# Altium schematic symbol library Mini Multi Function Device.SchLib: 27 symbols (part 1 of 2)
Pins are listed as number, name and electrical type; pins without a type are passive.

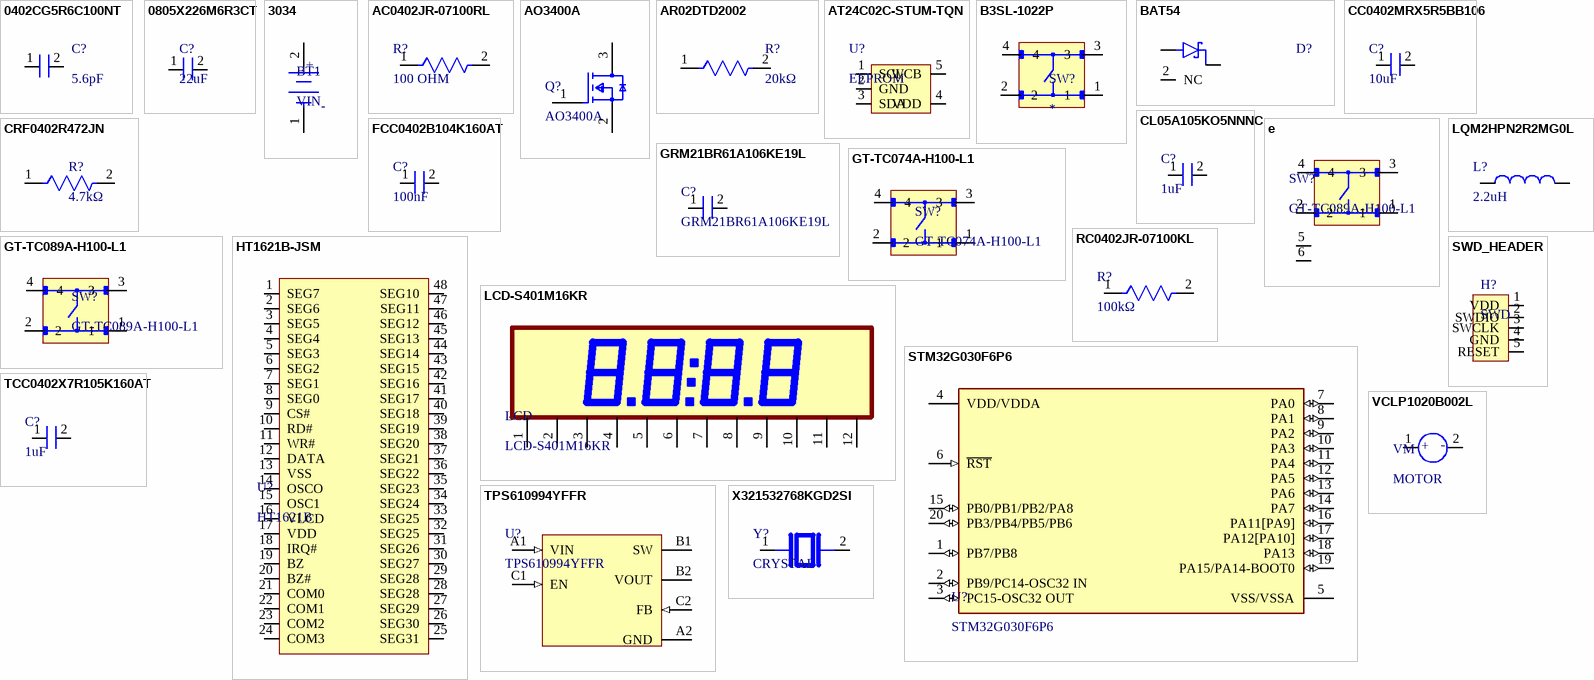
[diagram p0: symbols 0402CG5R6C100NT to X321532768KGD2SI]

## 0402CG5R6C100NT
designator C?, comment 5.6pF
10V 5.6pF C0G 0402 Multilayer Ceramic Capacitors MLCC - SMD/SMT ROHS; Manufacturer: FH (Guangdong Fenghua Advanced Tech); Manufacturer Part Number: 0402CG5R6C100NT; LCSC PART: C285041
footprint CAPACITOR
pins: 1 2, 2 3

## 0805X226M6R3CT
designator C?, comment 22uF
22uF 6.3V X5R ±20% 0805 Multilayer Ceramic Capacitors MLCC - SMD/SMT ROHS; Manufacturer: Walsin Tech Corp; Manufacturer Part Number: 0805X226M6R3CT; LCSC PART: C396739
footprint CAPACITOR_0805
pins: 1 2, 2 3

## 3034
designator BT1, comment VIN
Retainer 1 Button cell Ø20.0mm 2020，2025，2032 PCBinstall，SMD mount 4.06mm(height); Manufacturer: Keystone; Manufacturer Part Number: 3034; Number of Batteries: 1; Number of Contacts: 2; Supplier: DigiKey; Supplier Part Number: 36-3034-ND; RoHS: Compliant; Category: Batteries and Accessories; Stock: 45307; Pricing: 1=0.52, 10=0.43, 25=0.3996, 100=0.3571, 500=0.31354, 1000=0.29647, 2500=0.2753, 5000=0.2603 (USD); Contact Material: Nickel; Contact Plating: Tin; Height: 4.31mm; Lead Free: Lead Free; Lifecycle Status: Production; Mounting Technology: PCB, Surface Mount; Number of Cells: 1; REACH SVHC: Unaffected; Termination: SMD/SMT; ComponentLink1URL: https://datasheet.octopart.com:443/3034-Keystone-datasheet-137334392.pdf?src-supplier=Upverter; ComponentLink1Description: https://datasheet.octopart.com:443/3034-Keystone-datasheet-137334392.pdf?src-supplier=Upverter; ComponentLink2URL: https://datasheet.octopart.com:443/3034-Keystone-datasheet-15715878.pdf?src-supplier=Keystone; ComponentLink2Description: https://datasheet.octopart.com:443/3034-Keystone-datasheet-15715878.pdf?src-supplier=Keystone; ComponentLink3URL: https://datasheet.octopart.com:443/3034-Keystone-datasheet-16749974.pdf?src-supplier=element14+APAC; ComponentLink3Description: https://datasheet.octopart.com:443/3034-Keystone-datasheet-16749974.pdf?src-supplier=element14+APAC; ComponentLink4URL: https://datasheet.octopart.com:443/3034-Keystone-datasheet-110726686.pdf?src-supplier=Farnell; ComponentLink4Description: https://datasheet.octopart.com:443/3034-Keystone-datasheet-110726686.pdf?src-supplier=Farnell; ComponentLink5URL: https://datasheet.octopart.com:443/3034-Keystone-datasheet-159768223.pdf?src-supplier=TME; ComponentLink5Description: https://datasheet.octopart.com:443/3034-Keystone-datasheet-159768223.pdf?src-supplier=TME; ComponentLink6URL: https://datasheet.octopart.com:443/3034-Keystone-datasheet-62113088.pdf?src-supplier=RS+(Formerly+Allied+Electronics); ComponentLink6Description: https://datasheet.octopart.com:443/3034-Keystone-datasheet-62113088.pdf?src-supplier=RS+(Formerly+Allied+Electronics); ComponentLink7URL: https://datasheet.octopart.com:443/3034-Keystone-datasheet-24992608.pdf?src-supplier=Future+Electronics; ComponentLink7Description: https://datasheet.octopart.com:443/3034-Keystone-datasheet-24992608.pdf?src-supplier=Future+Electronics; LCSC PART: C5199422
footprint FP-3034-MFG
pins: 1 C, 2 A
text: +; -

## AC0402JR-07100RL
designator R?, comment 100 OHM
Res Thick Film 0402 100 Ohm 5% 0.063W(1/16W) ±100ppm/C Pad SMD T/R Automotive AEC-Q200; Manufacturer: Yageo Group; Manufacturer Part Number: AC0402JR-07100RL; Max Power Dissipation: 63mW; Power Rating: 62.5mW; Value: 100Ω; Temperature Coefficient: 100ppm/°C; Voltage Rating: 50V; Supplier: DigiKey; Supplier Part Number: YAG3516CT-ND; RoHS: Compliant; Category: Chip SMD Resistors; Stock: 671269; Pricing: 1=0.1, 10=0.022, 25=0.0164, 50=0.013, 100=0.0105, 250=0.00804, 500=0.00666, 1000=0.00558, 5000=0.0039 (USD); Case/Package: 0402; Case Code (Imperial): 0402; Case Code (Metric): 1005; China RoHS: Non-Compliant; Composition: Thick Film; Country of Origin: Mainland China, Taiwan; Depth: 500µm; Export Control Classification Number (ECCN) Code: EAR99; Features: Automotive AEC-Q200, Moisture Resistant; Height: 320µm; Harmonized Tariff Schedule (HTS) Code: 8533.21.00.30; Introduction Date: 2012-04-10; Length: 1mm; Lifecycle Status: Production; Max Operating Temperature: 155°C; Military Standard: Not; Min Operating Temperature: -55°C; Mounting Technology: Surface Mount; Number of Terminals: 2; Number of Terminations: 2; Packaging: Tape & Reel; Ratings: AEC-Q200; REACH SVHC: Unaffected; Schedule B: 8533210045, 8533210045|8533210045, 8533210045|8533210045|8533210045, 8533210045|8533210045|8533210045|8533210045; Termination: SMD/SMT; Tolerance: 5%; Weight: 652.039032µg; Width: 500µm; Working Voltage: 50V; ComponentLink1URL: https://datasheet.octopart.com:443/AC0402JR-07100RL-Yageo-datasheet-182189377.pdf?src-supplier=IHS; ComponentLink1Description: https://datasheet.octopart.com:443/AC0402JR-07100RL-Yageo-datasheet-182189377.pdf?src-supplier=IHS; ComponentLink2URL: https://datasheet.octopart.com:443/AC0402JR-07100RL-Yageo-datasheet-83209224.pdf?src-supplier=Upverter; ComponentLink2Description: https://datasheet.octopart.com:443/AC0402JR-07100RL-Yageo-datasheet-83209224.pdf?src-supplier=Upverter; ComponentLink3URL: https://datasheet.octopart.com:443/AC0402JR-07100RL-Yageo-datasheet-178509465.pdf?src-supplier=Newark; ComponentLink3Description: https://datasheet.octopart.com:443/AC0402JR-07100RL-Yageo-datasheet-178509465.pdf?src-supplier=Newark; ComponentLink4URL: https://datasheet.octopart.com:443/AC0402JR-07100RL-Yageo-Group-datasheet-188689268.pdf?src-supplier=LCSC; ComponentLink4Description: https://datasheet.octopart.com:443/AC0402JR-07100RL-Yageo-Group-datasheet-188689268.pdf?src-supplier=LCSC; ComponentLink5URL: https://datasheet.octopart.com:443/AC0402JR-07100RL-Yageo-datasheet-151884373.pdf?src-supplier=Future+Electronics; ComponentLink5Description: https://datasheet.octopart.com:443/AC0402JR-07100RL-Yageo-datasheet-151884373.pdf?src-supplier=Future+Electronics; ComponentLink6URL: https://datasheet.octopart.com:443/AC0402JR-07100RL-Yageo-Group-datasheet-189830439.pdf?src-supplier=Future+Electronics; ComponentLink6Description: https://datasheet.octopart.com:443/AC0402JR-07100RL-Yageo-Group-datasheet-189830439.pdf?src-supplier=Future+Electronics; ComponentLink7URL: https://datasheet.octopart.com:443/AC0402JR-07100RL-Yageo-datasheet-166720450.pdf?src-supplier=Future+Electronics; ComponentLink7Description: https://datasheet.octopart.com:443/AC0402JR-07100RL-Yageo-datasheet-166720450.pdf?src-supplier=Future+Electronics; ComponentLink8URL: https://datasheet.octopart.com:443/AC0402JR-07100RL-Yageo-datasheet-137699919.pdf?src-supplier=Future+Electronics; ComponentLink8Description: https://datasheet.octopart.com:443/AC0402JR-07100RL-Yageo-datasheet-137699919.pdf?src-supplier=Future+Electronics; ComponentLink9URL: https://datasheet.octopart.com:443/AC0402JR-07100RL-Yageo-datasheet-62139191.pdf?src-supplier=Future+Electronics; ComponentLink9Description: https://datasheet.octopart.com:443/AC0402JR-07100RL-Yageo-datasheet-62139191.pdf?src-supplier=Future+Electronics; ComponentLink10URL: https://datasheet.octopart.com:443/AC0402JR-07100RL-Yageo-datasheet-58829331.pdf?src-supplier=Future+Electronics; ComponentLink10Description: https://datasheet.octopart.com:443/AC0402JR-07100RL-Yageo-datasheet-58829331.pdf?src-supplier=Future+Electronics; ComponentLink11URL: https://datasheet.octopart.com:443/AC0402JR-07100RL-Yageo-datasheet-128678457.pdf?src-supplier=X-ON; ComponentLink11Description: https://datasheet.octopart.com:443/AC0402JR-07100RL-Yageo-datasheet-128678457.pdf?src-supplier=X-ON; ComponentLink12URL: https://datasheet.octopart.com/AC0402JR-07100RL-Yageo-datasheet-12512238.pdf; ComponentLink12Description: https://datasheet.octopart.com/AC0402JR-07100RL-Yageo-datasheet-12512238.pdf; ComponentLink13URL: http://sigma.octopart.com:80/conflict_mineral_statement/Yageo-company-3.pdf?src-supplier=Compliance+Statements; ComponentLink13Description: http://sigma.octopart.com:80/conflict_mineral_statement/Yageo-company-3.pdf?src-supplier=Compliance+Statements; ComponentLink14URL: http://sigma.octopart.com:80/rohs_statement/Yageo-company-2.pdf?src-supplier=Compliance+Statements; ComponentLink14Description: http://sigma.octopart.com:80/rohs_statement/Yageo-company-2.pdf?src-supplier=Compliance+Statements; LCSC PART: C138288
footprint RESISTOR
pins: 1, 2

## AO3400A
designator Q?
Trans MOSFET N-CH 30V 5.7A 3-Pin SOT-23; Manufacturer: Alpha & Omega Semiconductor; Drain to Source Resistance: 26.5mΩ; Gate to Source Voltage (Vgs): 12V; Input Capacitance: 630pF; Max Junction Temperature (Tj): 150°C; Max Power Dissipation: 1.4W; Number of Channels: 1; Threshold Voltage: 650mV; Turn-Off Delay Time: 25ns; Turn-On Delay Time: 3ns; Supplier: DigiKey; Supplier Part Number: 785-1000-6-ND; Manufacturer Part Number: AO3400A; RoHS: Compliant; Category: MOSFETs; Stock: 64557; Pricing: 1=0.52, 10=0.322, 50=0.2332, 100=0.2043, 500=0.15316 (USD); Case/Package: SOT-23; Continuous Drain Current (ID): 5.7A; Country of Origin: Mainland China; Drain to Source Breakdown Voltage: 30V; Drain to Source Voltage (Vdss): 30V; Export Control Classification Number (ECCN) Code: EAR99; Height: 1.25mm; Introduction Date: 2007-04-17; Lead Free: Lead Free; Lifecycle Status: Production; Max Operating Temperature: 150°C; Min Breakdown Voltage: 30V; Min Operating Temperature: -55°C; Mounting Technology: Surface Mount; Number of Elements: 1; Pins: 3; Number of Terminals: 3; Power Dissipation: 1.4W; Radiation Hardening: No; Rds On Max: 26.5mΩ; REACH SVHC: Unaffected; Schedule B: 8541290080, 8541290080|8541290080|8541290080|8541290080|8541290080; ComponentLink1URL: https://sigma.octopart.com:443/140150677/technical_drawing/Alpha-%26-Omega-Semiconductor-AO3400A.pdf?src-supplier=Alpha+%26+Omega+Semiconductor+SCT; ComponentLink1Description: https://sigma.octopart.com:443/140150677/technical_drawing/Alpha-%26-Omega-Semiconductor-AO3400A.pdf?src-supplier=Alpha+%26+Omega+Semiconductor+SCT; ComponentLink2URL: https://datasheet.octopart.com:443/AO3400A-Alpha-%26-Omega-Semiconductor-datasheet-11777925.pdf?src-supplier=IHS; ComponentLink2Description: https://datasheet.octopart.com:443/AO3400A-Alpha-%26-Omega-Semiconductor-datasheet-11777925.pdf?src-supplier=IHS; ComponentLink3URL: https://sigma.octopart.com:443/138895710/technical_drawing/Alpha-%26-Omega-Semiconductor-AO3400A.pdf?src-supplier=Upverter; ComponentLink3Description: https://sigma.octopart.com:443/138895710/technical_drawing/Alpha-%26-Omega-Semiconductor-AO3400A.pdf?src-supplier=Upverter; ComponentLink4URL: https://datasheet.octopart.com:443/AO3400A-Alpha-%26-Omega-Semiconductor-datasheet-14060799.pdf?src-supplier=iiiC; ComponentLink4Description: https://datasheet.octopart.com:443/AO3400A-Alpha-%26-Omega-Semiconductor-datasheet-14060799.pdf?src-supplier=iiiC; ComponentLink5URL: https://datasheet.octopart.com:443/AO3400A-Alpha-%26-Omega-Semiconductor-datasheet-5402508.pdf?src-supplier=Verical; ComponentLink5Description: https://datasheet.octopart.com:443/AO3400A-Alpha-%26-Omega-Semiconductor-datasheet-5402508.pdf?src-supplier=Verical; LCSC PART: C20917
footprint FP-SOT23-MFG
pins: 1 G, 2 S, 3 D

## AR02DTD2002
designator R?, comment 20kΩ
-55℃~+155℃ 20kΩ 25V 62.5mW Thin Film Resistor ±0.5% ±50ppm/℃ 0402 Chip Resistor - Surface Mount ROHS; Manufacturer: Viking Tech; Manufacturer Part Number: AR02DTD2002; LCSC PART: C319759
footprint RESISTOR
pins: 1, 2

## AT24C02C-STUM-TQN
designator U?, comment EEPROM
SOT-23-5 EEPROM ROHS; Manufacturer: QNH; Manufacturer Part Number: AT24C02C-STUM-TQN; LCSC PART: C53432858
footprint AT24C02C-STUM-TQN
pins: 1 SCL, 2 GND, 3 SDA, 4 VDD, 5 WCB

## B3SL-1022P
designator SW?
Switch Tactile N.O. SPST Extended Round Button J-Bend 0.05A 12VDC 1.96N SMD Embossed Tape; Manufacturer: Omron; Manufacturer Part Number: B3SL-1022P; Actuator Length: 2.5908mm; Actuator Material: Rubber; Contact Current Rating: 50mA; Contact Resistance: 100mΩ; Electrical Life: 100kcycles; Illumination Type: Illuminated, Non-Illuminated; Max Voltage Rating (DC): 12V; Number of Positions: 1; Operating Force: 2.45N; Ratings: Dust Tight, IP67, Waterproof; Sealable: IP67; Switch Function: Off-Mom; Switch Travel: 500µm; Supplier: Arrow Electronics; Supplier Part Number: B3SL-1022P; RoHS: Compliant; Category: Tactile Switches; Stock: 444403; Pricing: 1=0.5697, 10=0.4911, 25=0.4847, 100=0.4754, 250=0.4509, 500=0.4472, 1400=0.4226, 2800=0.4185, 4200=0.4143, 7000=0.4027, 9800=0.3951, 14000=0.3878 (USD); Case/Package: SMD/SMT; Connector Type: J-Bend; Contact Material: Silver; Country of Origin: Japan; Current Rating: 50mA; Depth: 7mm; Export Control Classification Number (ECCN) Code: EAR99; Height: 2.5mm; Harmonized Tariff Schedule (HTS) Code: 8536.50.90.40; Insulation Resistance: 100MΩ; Introduction Date: 2008-10-08; Lead Free: Lead Free; Length: 6.5mm; Lifecycle Status: Production; Max Current Rating: 50mA; Max Operating Temperature: 90°C; Mechanical Life: 100kcycles; Min Operating Temperature: -25°C; Mounting Technology: Surface Mount; Orientation: Straight; Packaging: Tape and Reel; Radiation Hardening: No; REACH SVHC: Unaffected; Termination: Solder; Throw Configuration: SPST; Voltage Rating (DC): 12V; Width: 6mm; ComponentLink1URL: https://datasheet.octopart.com:443/B3SL-1022P-Omron-datasheet-10910975.pdf?src-supplier=Factory+Futures; ComponentLink1Description: https://datasheet.octopart.com:443/B3SL-1022P-Omron-datasheet-10910975.pdf?src-supplier=Factory+Futures; ComponentLink2URL: https://datasheet.octopart.com:443/B3SL-1022P-Omron-datasheet-180955482.pdf?src-supplier=IHS; ComponentLink2Description: https://datasheet.octopart.com:443/B3SL-1022P-Omron-datasheet-180955482.pdf?src-supplier=IHS; ComponentLink3URL: https://datasheet.octopart.com:443/B3SL-1022P-Omron-datasheet-62106912.pdf?src-supplier=Newark; ComponentLink3Description: https://datasheet.octopart.com:443/B3SL-1022P-Omron-datasheet-62106912.pdf?src-supplier=Newark; ComponentLink4URL: https://datasheet.octopart.com:443/B3SL-1022P-Omron-datasheet-5337775.pdf?src-supplier=Newark; ComponentLink4Description: https://datasheet.octopart.com:443/B3SL-1022P-Omron-datasheet-5337775.pdf?src-supplier=Newark; ComponentLink5URL: https://datasheet.octopart.com:443/B3SL-1022P-Omron-datasheet-17360628.pdf?src-supplier=Farnell; ComponentLink5Description: https://datasheet.octopart.com:443/B3SL-1022P-Omron-datasheet-17360628.pdf?src-supplier=Farnell; ComponentLink6URL: https://datasheet.octopart.com:443/B3SL-1022P-Omron-datasheet-8478417.pdf?src-supplier=element14+APAC; ComponentLink6Description: https://datasheet.octopart.com:443/B3SL-1022P-Omron-datasheet-8478417.pdf?src-supplier=element14+APAC; ComponentLink7URL: https://datasheet.octopart.com:443/B3SL-1022P-Omron-datasheet-154765592.pdf?src-supplier=Master+Electronics; ComponentLink7Description: https://datasheet.octopart.com:443/B3SL-1022P-Omron-datasheet-154765592.pdf?src-supplier=Master+Electronics; LCSC PART: C86708
footprint SW_B3SL-1022P
pins: 1, 2, 3, 4

## BAT54
designator D?  (value not drawn)
Diode Schottky 30V 0.2A Automotive 3-Pin SOT-23; Manufacturer: Diodes Inc.; Manufacturer Part Number: BAT54; Value: 10pF; Current Rating: 200mA; Element Configuration: Single; Forward Voltage: 240mV; Max Forward Surge Current (Ifsm): 600mA; Max Power Dissipation: 200mW; Max Reverse Leakage Current: 2µA; Number of Elements: 1; Polarity: Standard; Reverse Recovery Time: 5ns; Reverse Standoff Voltage: 25V; Supplier: Newark; Supplier Part Number: BAT54; RoHS: Compliant; Category: Schottky Diodes; Stock: 48918; Pricing: 1=0.222, 50=0.174, 100=0.11, 250=0.091, 500=0.079, 1000=0.065, 2500=0.053, 5000=0.051 (USD); Case/Package: SOT-23; China RoHS: Non-Compliant; Country of Origin: Mainland China; Export Control Classification Number (ECCN) Code: EAR99; Forward Current: 200mA; Harmonized Tariff Schedule (HTS) Code: 8541.10.00.70; Introduction Date: 1995-09-01; Lead Free: Lead Free; Lifecycle Status: Production; LTB Date: 2021-08-06; LTD Date: 2021-08-06; Max Operating Temperature: 125°C; Max Output current: 200mA; Max Repetitive Reverse Voltage (Vrrm): 30V; Min Breakdown Voltage: 30V; Min Operating Temperature: -65°C; Pins: 3; Number of Terminals: 3; Output Current: 200mA; Packaging: Cut Tape; Peak Reverse Current: 2µA; Power Dissipation: 200mW; Power Rating: 200mW; REACH SVHC: Affected; Termination: SMD/SMT; Voltage Rating (DC): 30V; Width: 3.05mm; ComponentLink1URL: https://datasheet.octopart.com:443/BAT54-Rectron-datasheet-181184833.pdf?src-supplier=IHS; ComponentLink1Description: https://datasheet.octopart.com:443/BAT54-Rectron-datasheet-181184833.pdf?src-supplier=IHS; ComponentLink2URL: https://datasheet.octopart.com:443/BAT54-Lite-On-datasheet-149134416.pdf?src-supplier=IHS; ComponentLink2Description: https://datasheet.octopart.com:443/BAT54-Lite-On-datasheet-149134416.pdf?src-supplier=IHS; ComponentLink3URL: https://datasheet.octopart.com:443/BAT54-Rectron-datasheet-182306116.pdf?src-supplier=IHS; ComponentLink3Description: https://datasheet.octopart.com:443/BAT54-Rectron-datasheet-182306116.pdf?src-supplier=IHS; ComponentLink4URL: https://datasheet.octopart.com:443/BAT54-Diodes-Inc.-datasheet-181528020.pdf?src-supplier=IHS; ComponentLink4Description: https://datasheet.octopart.com:443/BAT54-Diodes-Inc.-datasheet-181528020.pdf?src-supplier=IHS; ComponentLink5URL: https://datasheet.octopart.com:443/BAT54-Diodes-Inc.-datasheet-180551406.pdf?src-supplier=IHS; ComponentLink5Description: https://datasheet.octopart.com:443/BAT54-Diodes-Inc.-datasheet-180551406.pdf?src-supplier=IHS; ComponentLink6URL: https://datasheet.octopart.com:443/BAT54-Diodes-Inc.-datasheet-181528181.pdf?src-supplier=IHS; ComponentLink6Description: https://datasheet.octopart.com:443/BAT54-Diodes-Inc.-datasheet-181528181.pdf?src-supplier=IHS; ComponentLink7URL: https://datasheet.octopart.com:443/BAT54-Diodes-Inc.-datasheet-180087920.pdf?src-supplier=IHS; ComponentLink7Description: https://datasheet.octopart.com:443/BAT54-Diodes-Inc.-datasheet-180087920.pdf?src-supplier=IHS; ComponentLink8URL: https://datasheet.octopart.com:443/BAT54-Diodes-Inc.-datasheet-180663379.pdf?src-supplier=IHS; ComponentLink8Description: https://datasheet.octopart.com:443/BAT54-Diodes-Inc.-datasheet-180663379.pdf?src-supplier=IHS; ComponentLink9URL: https://datasheet.octopart.com:443/BAT54-Zetex-datasheet-9882.pdf?src-supplier=IHS; ComponentLink9Description: https://datasheet.octopart.com:443/BAT54-Zetex-datasheet-9882.pdf?src-supplier=IHS; ComponentLink10URL: https://datasheet.octopart.com:443/BAT54-Diodes-Inc.-datasheet-180493470.pdf?src-supplier=IHS; ComponentLink10Description: https://datasheet.octopart.com:443/BAT54-Diodes-Inc.-datasheet-180493470.pdf?src-supplier=IHS; ComponentLink11URL: https://datasheet.octopart.com:443/BAT54-Diodes-Inc.-datasheet-182327183.pdf?src-supplier=IHS; ComponentLink11Description: https://datasheet.octopart.com:443/BAT54-Diodes-Inc.-datasheet-182327183.pdf?src-supplier=IHS; ComponentLink12URL: https://datasheet.octopart.com:443/BAT54-Diodes-Inc.-datasheet-548743.pdf?src-supplier=element14; ComponentLink12Description: https://datasheet.octopart.com:443/BAT54-Diodes-Inc.-datasheet-548743.pdf?src-supplier=element14; ComponentLink13URL: https://datasheet.octopart.com:443/BAT54-Diodes-Inc.-datasheet-41192442.pdf?src-supplier=Newark; ComponentLink13Description: https://datasheet.octopart.com:443/BAT54-Diodes-Inc.-datasheet-41192442.pdf?src-supplier=Newark; ComponentLink14URL: https://datasheet.octopart.com:443/BAT54-Diodes-Inc.-datasheet-134530442.pdf?src-supplier=Diodes+Inc+SCT; ComponentLink14Description: https://datasheet.octopart.com:443/BAT54-Diodes-Inc.-datasheet-134530442.pdf?src-supplier=Diodes+Inc+SCT; ComponentLink15URL: https://sigma.octopart.com:443/138706058/technical_drawing/Diodes-Inc.-BAT54.pdf?src-supplier=Diodes+Inc+SCT; ComponentLink15Description: https://sigma.octopart.com:443/138706058/technical_drawing/Diodes-Inc.-BAT54.pdf?src-supplier=Diodes+Inc+SCT; ComponentLink16URL: https://datasheet.octopart.com/BAT54-Diodes-Inc.-datasheet-11970926.pdf; ComponentLink16Description: https://datasheet.octopart.com/BAT54-Diodes-Inc.-datasheet-11970926.pdf; ComponentLink17URL: https://datasheet.octopart.com/BAT54-Diodes-Inc.-datasheet-10029091.pdf; ComponentLink17Description: https://datasheet.octopart.com/BAT54-Diodes-Inc.-datasheet-10029091.pdf; ComponentLink18URL: https://datasheet.octopart.com/BAT54-Diodes-Inc.-datasheet-5320128.pdf; ComponentLink18Description: https://datasheet.octopart.com/BAT54-Diodes-Inc.-datasheet-5320128.pdf; ComponentLink19URL: http://sigma.octopart.com:80/15540767/rohs_certificate/Diodes-Inc.-BAT54.pdf?src-supplier=Compliance+Statements; ComponentLink19Description: http://sigma.octopart.com:80/15540767/rohs_certificate/Diodes-Inc.-BAT54.pdf?src-supplier=Compliance+Statements; ComponentLink20URL: http://sigma.octopart.com:80/15616893/materials_sheet/Diodes-Inc.-BAT54.pdf?src-supplier=Compliance+Statements; ComponentLink20Description: http://sigma.octopart.com:80/15616893/materials_sheet/Diodes-Inc.-BAT54.pdf?src-supplier=Compliance+Statements; LCSC PART: C7528904
footprint SOT95P240X120-3N
pins: 1, 2 NC, 3

## CC0402MRX5R5BB106
designator C?, comment 10uF
6.3V 10uF X5R ±20% 0402 Multilayer Ceramic Capacitors MLCC - SMD/SMT ROHS; Manufacturer: Yageo Group; Manufacturer Part Number: CC0402MRX5R5BB106; Value: 10µF; Supplier: DigiKey; Supplier Part Number: 311-1729-1-ND; RoHS: Compliant; Category: Ceramic Capacitors; Stock: 65707; Pricing: 1=0.27, 10=0.154, 50=0.1096, 100=0.0961, 500=0.07342 (USD); Case/Package: 0402; Case Code (Imperial): 0402; Case Code (Metric): 1005; China RoHS: Compliant; Composition: Ceramic; Country of Origin: Mainland China, Taiwan; Depth: 500µm; Dielectric: X5R; Dielectric Material: Ceramic; Export Control Classification Number (ECCN) Code: EAR99; Halogen Free: Halogen Free; Height: 500µm; Harmonized Tariff Schedule (HTS) Code: 8532.24.00.20; Introduction Date: 2013-02-05; Lead Free: Lead Free; Length: 1mm; Lifecycle Status: Production; Max Operating Temperature: 85°C; Min Operating Temperature: -55°C; Mounting Technology: Surface Mount; Number of Terminals: 2; Packaging: Tape & Reel (TR); REACH SVHC: Unaffected; Schedule B: 8532240020, 8532240020|8532240020, 8532240020|8532240020|8532240020, 8532240020|8532240020|8532240020|8532240020; Termination: SMD/SMT; Thickness: 558.8µm; Tolerance: 20%; Voltage Rating: 6.3V; Voltage Rating (DC): 6.3V; Weight: 652.039032µg; Width: 500µm; ComponentLink1URL: https://datasheet.octopart.com:443/CC0402MRX5R5BB106-Yageo-datasheet-170350636.pdf?src-supplier=IHS; ComponentLink1Description: https://datasheet.octopart.com:443/CC0402MRX5R5BB106-Yageo-datasheet-170350636.pdf?src-supplier=IHS; ComponentLink2URL: https://datasheet.octopart.com:443/CC0402MRX5R5BB106-Yageo-datasheet-68297942.pdf?src-supplier=Upverter; ComponentLink2Description: https://datasheet.octopart.com:443/CC0402MRX5R5BB106-Yageo-datasheet-68297942.pdf?src-supplier=Upverter; ComponentLink3URL: https://datasheet.octopart.com:443/CC0402MRX5R5BB106-Yageo-datasheet-181967537.pdf?src-supplier=Newark; ComponentLink3Description: https://datasheet.octopart.com:443/CC0402MRX5R5BB106-Yageo-datasheet-181967537.pdf?src-supplier=Newark; ComponentLink4URL: https://datasheet.octopart.com:443/CC0402MRX5R5BB106-Yageo-datasheet-140260304.pdf?src-supplier=Newark; ComponentLink4Description: https://datasheet.octopart.com:443/CC0402MRX5R5BB106-Yageo-datasheet-140260304.pdf?src-supplier=Newark; ComponentLink5URL: https://datasheet.octopart.com:443/CC0402MRX5R5BB106-Yageo-Group-datasheet-175963154.pdf?src-supplier=Newark; ComponentLink5Description: https://datasheet.octopart.com:443/CC0402MRX5R5BB106-Yageo-Group-datasheet-175963154.pdf?src-supplier=Newark; ComponentLink6URL: https://datasheet.octopart.com:443/CC0402MRX5R5BB106-Yageo-datasheet-158238148.pdf?src-supplier=Newark; ComponentLink6Description: https://datasheet.octopart.com:443/CC0402MRX5R5BB106-Yageo-datasheet-158238148.pdf?src-supplier=Newark; ComponentLink7URL: https://datasheet.octopart.com:443/CC0402MRX5R5BB106-Yageo-datasheet-149070021.pdf?src-supplier=TME; ComponentLink7Description: https://datasheet.octopart.com:443/CC0402MRX5R5BB106-Yageo-datasheet-149070021.pdf?src-supplier=TME; ComponentLink8URL: https://datasheet.octopart.com:443/CC0402MRX5R5BB106-Yageo-Group-datasheet-145016144.pdf?src-supplier=ODG+(Origin+Data+Global); ComponentLink8Description: https://datasheet.octopart.com:443/CC0402MRX5R5BB106-Yageo-Group-datasheet-145016144.pdf?src-supplier=ODG+(Origin+Data+Global); ComponentLink9URL: https://datasheet.octopart.com:443/CC0402MRX5R5BB106-Yageo-datasheet-137875056.pdf?src-supplier=Future+Electronics; ComponentLink9Description: https://datasheet.octopart.com:443/CC0402MRX5R5BB106-Yageo-datasheet-137875056.pdf?src-supplier=Future+Electronics; ComponentLink10URL: https://datasheet.octopart.com:443/CC0402MRX5R5BB106-Yageo-datasheet-78855684.pdf?src-supplier=Future+Electronics; ComponentLink10Description: https://datasheet.octopart.com:443/CC0402MRX5R5BB106-Yageo-datasheet-78855684.pdf?src-supplier=Future+Electronics; ComponentLink11URL: https://datasheet.octopart.com:443/CC0402MRX5R5BB106-Yageo-datasheet-59875459.pdf?src-supplier=Future+Electronics; ComponentLink11Description: https://datasheet.octopart.com:443/CC0402MRX5R5BB106-Yageo-datasheet-59875459.pdf?src-supplier=Future+Electronics; ComponentLink12URL: https://datasheet.octopart.com:443/CC0402MRX5R5BB106-Yageo-datasheet-27626583.pdf?src-supplier=Future+Electronics; ComponentLink12Description: https://datasheet.octopart.com:443/CC0402MRX5R5BB106-Yageo-datasheet-27626583.pdf?src-supplier=Future+Electronics; ComponentLink13URL: https://datasheet.octopart.com:443/CC0402MRX5R5BB106-Yageo-datasheet-14389981.pdf?src-supplier=Future+Electronics; ComponentLink13Description: https://datasheet.octopart.com:443/CC0402MRX5R5BB106-Yageo-datasheet-14389981.pdf?src-supplier=Future+Electronics; ComponentLink14URL: https://datasheet.octopart.com/CC0402MRX5R5BB106-Yageo-datasheet-86397281.pdf; ComponentLink14Description: https://datasheet.octopart.com/CC0402MRX5R5BB106-Yageo-datasheet-86397281.pdf; ComponentLink15URL: http://sigma.octopart.com:80/conflict_mineral_statement/Yageo-company-3.pdf?src-supplier=Compliance+Statements; ComponentLink15Description: http://sigma.octopart.com:80/conflict_mineral_statement/Yageo-company-3.pdf?src-supplier=Compliance+Statements; ComponentLink16URL: http://sigma.octopart.com:80/rohs_statement/Yageo-company-2.pdf?src-supplier=Compliance+Statements; ComponentLink16Description: http://sigma.octopart.com:80/rohs_statement/Yageo-company-2.pdf?src-supplier=Compliance+Statements; LCSC PART: C105884
footprint CAPACITOR
pins: 1 2, 2 3

## CL05A105KO5NNNC
designator C?, comment 1uF
16V 1uF X5R 卤10% 0402 Multilayer Ceramic Capacitors MLCC - SMD/SMT ROHS; Manufacturer: Samsung Electro-Mechanics; Manufacturer Part Number: CL05A105KO5NNNC; Value: 1µF; Tolerance: 10%; Supplier: DigiKey; Supplier Part Number: 1276-1067-6-ND; RoHS: Compliant; Category: Ceramic Capacitors; Stock: 1053248; Pricing: 1=0.1, 10=0.043, 50=0.029, 100=0.0248, 500=0.01786 (USD); Case/Package: 0402; Case Code (Imperial): 0402; Case Code (Metric): 1005; China RoHS: Compliant; Contact Plating: Tin; Depth: 500µm; Dielectric: X5R; Dielectric Material: Ceramic; Height: 550µm; Length: 1mm; Lifecycle Status: Production; Material: Ceramic; Max Operating Temperature: 85°C; Min Operating Temperature: -55°C; Mounting Technology: Surface Mount; Number of Terminals: 2; Radiation Hardening: No; REACH SVHC: Unaffected; Schedule B: 8532240020, 8532240020|8532240020, 8532240020|8532240020|8532240020, 8532240020|8532240020|8532240020|8532240020; Thickness: 558.8µm; Voltage: 16V; Voltage Rating: 16V; Voltage Rating (DC): 16V; Width: 500µm; ComponentLink1URL: https://datasheet.octopart.com:443/CL05A105KO5NNNC-Samsung-Electro-Mechanics-datasheet-181960514.pdf?src-supplier=IHS; ComponentLink1Description: https://datasheet.octopart.com:443/CL05A105KO5NNNC-Samsung-Electro-Mechanics-datasheet-181960514.pdf?src-supplier=IHS; ComponentLink2URL: https://datasheet.octopart.com:443/CL05A105KO5NNNC-Samsung-Electro-Mechanics-datasheet-136031720.pdf?src-supplier=Samsung+SCT; ComponentLink2Description: https://datasheet.octopart.com:443/CL05A105KO5NNNC-Samsung-Electro-Mechanics-datasheet-136031720.pdf?src-supplier=Samsung+SCT; ComponentLink3URL: https://datasheet.octopart.com:443/CL05A105KO5NNNC-Samsung-Electro-Mechanics-datasheet-11776774.pdf?src-supplier=Future+Electronics; ComponentLink3Description: https://datasheet.octopart.com:443/CL05A105KO5NNNC-Samsung-Electro-Mechanics-datasheet-11776774.pdf?src-supplier=Future+Electronics; ComponentLink4URL: https://datasheet.octopart.com:443/CL05A105KO5NNNC-Samsung-Electro-Mechanics-datasheet-110226202.pdf?src-supplier=Future+Electronics; ComponentLink4Description: https://datasheet.octopart.com:443/CL05A105KO5NNNC-Samsung-Electro-Mechanics-datasheet-110226202.pdf?src-supplier=Future+Electronics; ComponentLink5URL: https://datasheet.octopart.com:443/CL05A105KO5NNNC-Samsung-Electro-Mechanics-datasheet-81461590.pdf?src-supplier=Future+Electronics; ComponentLink5Description: https://datasheet.octopart.com:443/CL05A105KO5NNNC-Samsung-Electro-Mechanics-datasheet-81461590.pdf?src-supplier=Future+Electronics; ComponentLink6URL: https://datasheet.octopart.com:443/CL05A105KO5NNNC-Samsung-datasheet-42280519.pdf?src-supplier=Future+Electronics; ComponentLink6Description: https://datasheet.octopart.com:443/CL05A105KO5NNNC-Samsung-datasheet-42280519.pdf?src-supplier=Future+Electronics; ComponentLink7URL: https://datasheet.octopart.com:443/CL05A105KO5NNNC-Samsung-datasheet-34152987.pdf?src-supplier=Future+Electronics; ComponentLink7Description: https://datasheet.octopart.com:443/CL05A105KO5NNNC-Samsung-datasheet-34152987.pdf?src-supplier=Future+Electronics; ComponentLink8URL: https://datasheet.octopart.com:443/CL05A105KO5NNNC-Samsung-datasheet-8329584.pdf?src-supplier=Future+Electronics; ComponentLink8Description: https://datasheet.octopart.com:443/CL05A105KO5NNNC-Samsung-datasheet-8329584.pdf?src-supplier=Future+Electronics; ComponentLink9URL: https://datasheet.octopart.com:443/CL05A105KO5NNNC-Samsung-Electro-Mechanics-datasheet-149136633.pdf?src-supplier=Future+Electronics; ComponentLink9Description: https://datasheet.octopart.com:443/CL05A105KO5NNNC-Samsung-Electro-Mechanics-datasheet-149136633.pdf?src-supplier=Future+Electronics; ComponentLink10URL: https://datasheet.octopart.com/CL05A105KO5NNNC-Samsung-Electro-Mechanics-datasheet-97040617.pdf; ComponentLink10Description: https://datasheet.octopart.com/CL05A105KO5NNNC-Samsung-Electro-Mechanics-datasheet-97040617.pdf; ComponentLink11URL: https://datasheet.octopart.com/CL05A105KO5NNNC-Samsung-Electro-Mechanics-datasheet-8324245.pdf; ComponentLink11Description: https://datasheet.octopart.com/CL05A105KO5NNNC-Samsung-Electro-Mechanics-datasheet-8324245.pdf; ComponentLink12URL: https://datasheet.octopart.com:443/CL05A105KO5NNNC-Samsung-datasheet-59220082.pdf?src-supplier=TME; ComponentLink12Description: https://datasheet.octopart.com:443/CL05A105KO5NNNC-Samsung-datasheet-59220082.pdf?src-supplier=TME; LCSC PART: C29266
footprint CAPACITOR
pins: 1 2, 2 3

## CRF0402R472JN
designator R?, comment 4.7kΩ
-55℃~+125℃ 30V 4.7kΩ 62.5mW ±5% ±50ppm/℃ 0402 Chip Resistor - Surface Mount ROHS; Manufacturer: SIE; Manufacturer Part Number: CRF0402R472JN; LCSC PART: C54974059
footprint RESISTOR
pins: 1, 2

## e
designator SW?, comment GT-TC089A-H100-L1
Switch Tactile N.O. SPST Round Button J-Bend 0.05A 12VDC 200000Cycles 4N SMD T/R; Manufacturer: ALPS; Manufacturer Part Number: SKSGAAE010; Actuator Length: 406.4µm; Contact Resistance: 100mΩ; Current Rating: 50mA; Electrical Life: 200kcycles; Max Voltage Rating (DC): 12V; Number of Positions: 1; Supplier: DigiKey; Supplier Part Number: 4809-SKSGAAE010DKR-ND; RoHS: Compliant; Category: Tactile Switches; Stock: 7403; Pricing: 1=0.45, 10=0.388, 25=0.3624, 100=0.3241, 250=0.30028, 500=0.28342, 1000=0.26774, 2500=0.24901, 5000=0.23641 (USD); Case/Package: SMD/SMT; Color: Black; Export Control Classification Number (ECCN) Code: EAR99; Height: 990.6µm; Harmonized Tariff Schedule (HTS) Code: 8536.50.70.00; Insulation Resistance: 100MΩ; Introduction Date: 2015-04-16; Length: 3.048mm; Lifecycle Status: Production; Max Current Rating: 50mA; Max Operating Temperature: 85°C; Mechanical Life: 200kcycles; Min Operating Temperature: -40°C; Mounting Technology: Surface Mount; Operating Force: 4N; Termination: Solder; Throw Configuration: SPST; Voltage Rating (DC): 12V; ComponentLink1URL: https://datasheet.octopart.com:443/SKSGAAE010-ALPS-datasheet-160473678.pdf?src-supplier=IHS; ComponentLink1Description: https://datasheet.octopart.com:443/SKSGAAE010-ALPS-datasheet-160473678.pdf?src-supplier=IHS; ComponentLink2URL: https://datasheet.octopart.com:443/SKSGAAE010-ALPS-datasheet-182235287.pdf?src-supplier=IHS; ComponentLink2Description: https://datasheet.octopart.com:443/SKSGAAE010-ALPS-datasheet-182235287.pdf?src-supplier=IHS; ComponentLink3URL: https://datasheet.octopart.com:443/SKSGAAE010-ALPS-datasheet-169092254.pdf?src-supplier=Future+Electronics; ComponentLink3Description: https://datasheet.octopart.com:443/SKSGAAE010-ALPS-datasheet-169092254.pdf?src-supplier=Future+Electronics; LCSC PART: C255505
footprint SKSGAAE010
pins: 1, 2, 3, 4, 5, 6

## FCC0402B104K160AT
designator C?, comment 100nF
FCC0402B104K160AT 100nF ±10% 16V Ceramic Capacitor X7R 0402 Ceramic Capacitors  100nF   16V 10%; Manufacturer: FOJAN; LCSC PART: C5137468; Manufacturer Part Number: FCC0402B104K160AT
footprint CAPACITOR
pins: 1 2, 2 3

## GRM21BR61A106KE19L
designator C?
10V 10uF X5R ±10% 0805 Multilayer Ceramic Capacitors MLCC - SMD/SMT ROHS; Manufacturer: Murata Electronics; LCSC PART: C77073; Manufacturer Part Number: GRM21BR61A106KE19L
footprint CAPACITOR_0805
pins: 1 2, 2 3

## GT-TC074A-H100-L1
designator SW?
-30℃~+85℃ 1.6N 100,000 cycles 10mm 12V 4.5mm 4.5mm 50mA Black No Round Button SMD(SMT) Tab SPST Surface Mount,Vertical Without Bracket SMD-4P,4.5x4.5mm Tactile Switches ROHS; Manufacturer: G-Switch; LCSC PART: C963232; Manufacturer Part Number: GT-TC074A-H100-L1
footprint SW-SMD_4P-L4.5-W4.5-P3.00-LS7.5
pins: 1, 2, 3, 4

## GT-TC089A-H100-L1
designator SW?
-30℃~+85℃ 1.6N 100,000 cycles 10mm 12V 50mA 6mm 6mm Black No Round Button SMD(SMT) Tab SPST Surface Mount,Vertical Without Bracket SMD-4P,6x6mm Tactile Switches ROHS; Manufacturer: G-Switch; LCSC PART: C843652; Manufacturer Part Number: GT-TC089A-H100-L1
footprint SW-SMD_4P-L6.0-W6.0-P4.50-LS8.5
pins: 1, 2, 3, 4

## HT1621B-JSM
designator U?, comment HT1621B
-25℃~+75℃ 0.1uA 1/3,1/2 1/4,1/3,1/2 2.4V~5.2V 256kHz 3-Wire Serial Interface 32 Segment 32x4 bit 60uA Built-in oscillator SSOP-48 LCD Drivers ROHS; Manufacturer: JSMSEMI; Manufacturer Part Number: HT1621B-JSM; LCSC PART: C18190086
footprint HT1621B-JSM (-40℃~+85℃ 0.1uA 1/3,1/2 1/4,1/3,1/2 2.4V~5.2V 256kHz 3-Wire Serial Interface 32 Segment 32x4 bit 60uA LQFP-44(10x10) LCD Drivers ROHS)
pins: 1 SEG7 (oc), 2 SEG6 (oc), 3 SEG5 (oc), 4 SEG4 (oc), 5 SEG3 (oc), 6 SEG2 (oc), 7 SEG1 (oc), 8 SEG0 (oc), 9 CS# (oc), 10 RD# (oc), 11 WR# (oc), 12 DATA (oc), 13 VSS (oc), 14 OSCO (oc), 15 OSC1 (oc), 16 VLCD (oc), 17 VDD (oc), 18 IRQ# (oc), 19 BZ (oc), 20 BZ# (oc), 21 COM0 (oc), 22 COM1 (oc), 23 COM2 (oc), 24 COM3 (oc), 25 SEG31 (oc), 26 SEG30 (oc), 27 SEG29 (oc), 28 SEG28 (oc), 29 SEG28 (oc), 30 SEG27 (oc), 31 SEG26 (oc), 32 SEG25 (oc), 33 SEG25 (oc), 34 SEG24 (oc), 35 SEG23 (oc), 36 SEG22 (oc), 37 SEG21 (oc), 38 SEG20 (oc), 39 SEG19 (oc), 40 SEG18 (oc), 41 SEG17 (oc), 42 SEG16 (oc), 43 SEG15 (oc), 44 SEG14 (oc), 45 SEG13 (oc), 46 SEG12 (oc), 47 SEG11 (oc), 48 SEG10 (oc)

## LCD-S401M16KR
designator LCD
LCD Numeric Display Modules 4 Digit 0.17 7 Seg Reflective; Manufacturer: Lumex; Background Color: Grey; Nominal Supply Voltage (DC): 3V; Number of Circuits: 5; Supplier: DigiKey; Supplier Part Number: LCD-S401M16KR-ND; Manufacturer Part Number: LCD-S401M16KR; RoHS: Compliant; Category: LCD, OLED, Graphic Displays; Stock: 6110; Pricing: 1=2.07, 10=1.484, 100=1.1317, 864=0.93564, 1728=0.89114, 2592=0.86835, 5184=0.83419, 10368=0.80529 (USD); China RoHS: Compliant; Lifecycle Status: Production; Max Operating Temperature: 50°C; Min Operating Temperature: 0°C; Operating Supply Voltage: 3V; Packaging: Bulk; REACH SVHC: Yes; Schedule B: 8531200020, 8531200040, 8531200040|8531200040, 8531200040|8531200040|8531200040; ComponentLink1URL: https://datasheet.octopart.com:443/LCD-S401M16KR-Lumex-datasheet-154837219.pdf?src-supplier=JRH+Electronics; ComponentLink1Description: https://datasheet.octopart.com:443/LCD-S401M16KR-Lumex-datasheet-154837219.pdf?src-supplier=JRH+Electronics; ComponentLink2URL: https://datasheet.octopart.com:443/LCD-S401M16KR-Lumex-datasheet-155954798.pdf?src-supplier=Future+Electronics; ComponentLink2Description: https://datasheet.octopart.com:443/LCD-S401M16KR-Lumex-datasheet-155954798.pdf?src-supplier=Future+Electronics; LCSC PART: C17355221
footprint LCD-S401M16KR
pins: 1 P$1, 2 P$2, 3 P$3, 4 P$4, 5 P$5, 6 P$6, 7 P$7, 8 P$8, 9 P$9, 10 P$10, 11 P$11, 12 P$12

## LQM2HPN2R2MG0L
designator L?, comment 2.2uH
Inductor Power Chip Shielded Multi-Layer 2.2uH 20% 1MHz Ferrite 1.3A 0.1Ohm DCR 1008 T/R; Manufacturer: Murata; Manufacturer Part Number: LQM2HPN2R2MG0L; Manufacturer Lifecycle Status: IN PRODUCTION; Value: 220µF; DC Resistance (DCR): 100mΩ; Number of Circuits: 1; Self Resonant Frequency: 40MHz; Voltage Rating: 50V; Supplier: DigiKey; Supplier Part Number: 490-5114-1-ND; RoHS: Compliant; Category: Fixed Inductors; Stock: 505234; Pricing: 1=0.17, 10=0.142, 100=0.1167, 1000=0.09599 (USD); Case/Package: 1008; Case Code (Imperial): 1008; Case Code (Metric): 2520; Core Material: Ferrite; Current Rating: 1.3A; DC Current: 1.3A; Depth: 2.2mm; Diameter: 10mm; Height: 900µm; Height - Seated (Max): 990.6µm; Inductance Tolerance: 20%; Lead Free: Lead Free; Lead Pitch: 5mm; Length: 2.5mm; Lifecycle Status: Production; Max Current Rating: 1.3A; Max DC Current: 1.3A; Max Operating Temperature: 125°C; Military Standard: Not; Min Operating Temperature: -55°C; Mounting Technology: Through Hole; Pins: 2; Number of Terminals: 2; Packaging: Bulk; Radiation Hardening: No; REACH SVHC: Unaffected; RMS Current (Irms): 1.3A; Schedule B: 8504500000, 8504500000|8504500000, 8504500000|8504500000|8504500000, 8504500000|8504500000|8504500000|8504500000; ESR: 100mΩ; Shielding: Shielded; Termination: SMD/SMT; Test Frequency: 1MHz; Tolerance: 20%; Voltage Rating (DC): 50V; Width: 2mm; ComponentLink1URL: https://datasheet.octopart.com:443/LQM2HPN2R2MG0L-Murata-datasheet-11799310.pdf?src-supplier=Upverter; ComponentLink1Description: https://datasheet.octopart.com:443/LQM2HPN2R2MG0L-Murata-datasheet-11799310.pdf?src-supplier=Upverter; ComponentLink2URL: https://datasheet.octopart.com:443/LQM2HPN2R2MG0L-Murata-datasheet-44660790.pdf?src-supplier=Upverter; ComponentLink2Description: https://datasheet.octopart.com:443/LQM2HPN2R2MG0L-Murata-datasheet-44660790.pdf?src-supplier=Upverter; ComponentLink3URL: https://datasheet.octopart.com:443/LQM2HPN2R2MG0L-Murata-datasheet-39128533.pdf?src-supplier=Newark; ComponentLink3Description: https://datasheet.octopart.com:443/LQM2HPN2R2MG0L-Murata-datasheet-39128533.pdf?src-supplier=Newark; ComponentLink4URL: https://datasheet.octopart.com:443/LQM2HPN2R2MG0L-Murata-datasheet-141288001.pdf?src-supplier=Ciiva; ComponentLink4Description: https://datasheet.octopart.com:443/LQM2HPN2R2MG0L-Murata-datasheet-141288001.pdf?src-supplier=Ciiva; ComponentLink5URL: https://datasheet.octopart.com:443/LQM2HPN2R2MG0L-Murata-datasheet-140714418.pdf?src-supplier=Ciiva; ComponentLink5Description: https://datasheet.octopart.com:443/LQM2HPN2R2MG0L-Murata-datasheet-140714418.pdf?src-supplier=Ciiva; ComponentLink6URL: https://datasheet.octopart.com:443/LQM2HPN2R2MG0L-Murata-datasheet-138755521.pdf?src-supplier=Ciiva; ComponentLink6Description: https://datasheet.octopart.com:443/LQM2HPN2R2MG0L-Murata-datasheet-138755521.pdf?src-supplier=Ciiva; ComponentLink7URL: https://datasheet.octopart.com:443/LQM2HPN2R2MG0L-Murata-datasheet-140710322.pdf?src-supplier=TME; ComponentLink7Description: https://datasheet.octopart.com:443/LQM2HPN2R2MG0L-Murata-datasheet-140710322.pdf?src-supplier=TME; ComponentLink8URL: https://datasheet.octopart.com:443/LQM2HPN2R2MG0L-Murata-datasheet-142045970.pdf?src-supplier=Arrow.cn; ComponentLink8Description: https://datasheet.octopart.com:443/LQM2HPN2R2MG0L-Murata-datasheet-142045970.pdf?src-supplier=Arrow.cn; ComponentLink9URL: https://datasheet.octopart.com:443/LQM2HPN2R2MG0L-Murata-datasheet-145450753.pdf?src-supplier=Geoflip; ComponentLink9Description: https://datasheet.octopart.com:443/LQM2HPN2R2MG0L-Murata-datasheet-145450753.pdf?src-supplier=Geoflip; ComponentLink10URL: https://datasheet.octopart.com:443/LQM2HPN2R2MG0L-Murata-datasheet-104455174.pdf?src-supplier=Future+Electronics; ComponentLink10Description: https://datasheet.octopart.com:443/LQM2HPN2R2MG0L-Murata-datasheet-104455174.pdf?src-supplier=Future+Electronics; ComponentLink11URL: https://datasheet.octopart.com/LQM2HPN2R2MG0L-Murata-datasheet-14392801.pdf; ComponentLink11Description: https://datasheet.octopart.com/LQM2HPN2R2MG0L-Murata-datasheet-14392801.pdf; ComponentLink12URL: http://sigma.octopart.com:80/reach_statement/Murata-company-16.pdf?src-supplier=Compliance+Statements; ComponentLink12Description: http://sigma.octopart.com:80/reach_statement/Murata-company-16.pdf?src-supplier=Compliance+Statements; LCSC PART: C86092
footprint INDC2520X100N
pins: 1, 2

## RC0402JR-07100KL
designator R?, comment 100kΩ
62.5mW Thick Film Resistors 50V ±100ppm/℃ ±5% 100kΩ 0402 Chip Resistor - Surface Mount ROHS; Manufacturer: Yageo Group; Manufacturer Part Number: RC0402JR-07100KL; Max Power Dissipation: 63mW; Temperature Coefficient: 100ppm/°C; Supplier: DigiKey; Supplier Part Number: 311-100KJRCT-ND; RoHS: Compliant; Category: Chip SMD Resistors; Stock: 495681; Pricing: 1=0.1, 10=0.019, 25=0.0136, 50=0.0108, 100=0.0087, 250=0.0066, 500=0.00542, 1000=0.00451, 5000=0.00309 (USD); Case/Package: 0402; Case Code (Imperial): 0402; China RoHS: Non-Compliant; Composition: Thick Film; Country of Origin: Mainland China, Taiwan; Depth: 500µm; Export Control Classification Number (ECCN) Code: EAR99; Features: Moisture Resistant; Height: 350µm; Harmonized Tariff Schedule (HTS) Code: 8533.21.00.30; Introduction Date: 2004-10-04; Lead Free: Lead Free; Length: 1mm; Lifecycle Status: Production; Max Operating Temperature: 155°C; Military Standard: Not; Min Operating Temperature: -55°C; Mounting Technology: Surface Mount; Pins: 2; Number of Terminals: 2; Number of Terminations: 2; Packaging: Tape & Reel; Power Rating: 62.5mW; REACH SVHC: Unaffected; Value: 100kΩ; Schedule B: 8533210045, 8533210045|8533210045, 8533210045|8533210045|8533210045, 8533210045|8533210045|8533210045|8533210045; Termination: SMD/SMT; Tolerance: 5%; Voltage Rating: 50V; Voltage Rating (AC): 50V; Voltage Rating (DC): 50V; Width: 500µm; Working Voltage: 50V; ComponentLink1URL: https://datasheet.octopart.com:443/RC0402JR-07100KL-Yageo-datasheet-175887523.pdf?src-supplier=Newark; ComponentLink1Description: https://datasheet.octopart.com:443/RC0402JR-07100KL-Yageo-datasheet-175887523.pdf?src-supplier=Newark; ComponentLink2URL: https://datasheet.octopart.com:443/RC0402JR-07100KL-Yageo-datasheet-10408619.pdf?src-supplier=Newark; ComponentLink2Description: https://datasheet.octopart.com:443/RC0402JR-07100KL-Yageo-datasheet-10408619.pdf?src-supplier=Newark; ComponentLink3URL: https://datasheet.octopart.com:443/RC0402JR-07100KL-Yageo-datasheet-8324527.pdf?src-supplier=Newark; ComponentLink3Description: https://datasheet.octopart.com:443/RC0402JR-07100KL-Yageo-datasheet-8324527.pdf?src-supplier=Newark; ComponentLink4URL: https://datasheet.octopart.com:443/RC0402JR-07100KL-Yageo-datasheet-141265859.pdf?src-supplier=Upverter; ComponentLink4Description: https://datasheet.octopart.com:443/RC0402JR-07100KL-Yageo-datasheet-141265859.pdf?src-supplier=Upverter; ComponentLink5URL: https://sigma.octopart.com:443/138820526/technical_drawing/Yageo-RC0402JR-07100KL.pdf?src-supplier=Upverter; ComponentLink5Description: https://sigma.octopart.com:443/138820526/technical_drawing/Yageo-RC0402JR-07100KL.pdf?src-supplier=Upverter; ComponentLink6URL: https://datasheet.octopart.com:443/RC0402JR-07100KL-Yageo-datasheet-98239111.pdf?src-supplier=Upverter; ComponentLink6Description: https://datasheet.octopart.com:443/RC0402JR-07100KL-Yageo-datasheet-98239111.pdf?src-supplier=Upverter; ComponentLink7URL: https://datasheet.octopart.com:443/RC0402JR-07100KL-Yageo-datasheet-141435361.pdf?src-supplier=Upverter; ComponentLink7Description: https://datasheet.octopart.com:443/RC0402JR-07100KL-Yageo-datasheet-141435361.pdf?src-supplier=Upverter; ComponentLink8URL: https://datasheet.octopart.com:443/RC0402JR-07100KL-Yageo-Group-datasheet-190305687.pdf?src-supplier=Future+Electronics; ComponentLink8Description: https://datasheet.octopart.com:443/RC0402JR-07100KL-Yageo-Group-datasheet-190305687.pdf?src-supplier=Future+Electronics; ComponentLink9URL: https://datasheet.octopart.com:443/RC0402JR-07100KL-Yageo-datasheet-164759695.pdf?src-supplier=Future+Electronics; ComponentLink9Description: https://datasheet.octopart.com:443/RC0402JR-07100KL-Yageo-datasheet-164759695.pdf?src-supplier=Future+Electronics; ComponentLink10URL: https://datasheet.octopart.com:443/RC0402JR-07100KL-Yageo-datasheet-137700087.pdf?src-supplier=Future+Electronics; ComponentLink10Description: https://datasheet.octopart.com:443/RC0402JR-07100KL-Yageo-datasheet-137700087.pdf?src-supplier=Future+Electronics; ComponentLink11URL: https://datasheet.octopart.com:443/RC0402JR-07100KL-Yageo-datasheet-12531192.pdf?src-supplier=Future+Electronics; ComponentLink11Description: https://datasheet.octopart.com:443/RC0402JR-07100KL-Yageo-datasheet-12531192.pdf?src-supplier=Future+Electronics; ComponentLink12URL: https://datasheet.octopart.com:443/RC0402JR-07100KL-Yageo-datasheet-505231.pdf?src-supplier=Future+Electronics; ComponentLink12Description: https://datasheet.octopart.com:443/RC0402JR-07100KL-Yageo-datasheet-505231.pdf?src-supplier=Future+Electronics; ComponentLink13URL: https://datasheet.octopart.com:443/RC0402JR-07100KL-Yageo-datasheet-62067350.pdf?src-supplier=element14+APAC; ComponentLink13Description: https://datasheet.octopart.com:443/RC0402JR-07100KL-Yageo-datasheet-62067350.pdf?src-supplier=element14+APAC; ComponentLink14URL: https://datasheet.octopart.com:443/RC0402JR-07100KL-Yageo-Group-datasheet-176638170.pdf?src-supplier=Farnell; ComponentLink14Description: https://datasheet.octopart.com:443/RC0402JR-07100KL-Yageo-Group-datasheet-176638170.pdf?src-supplier=Farnell; ComponentLink15URL: https://datasheet.octopart.com:443/RC0402JR-07100KL-Yageo-datasheet-148775077.pdf?src-supplier=TME; ComponentLink15Description: https://datasheet.octopart.com:443/RC0402JR-07100KL-Yageo-datasheet-148775077.pdf?src-supplier=TME; ComponentLink16URL: https://datasheet.octopart.com/RC0402JR-07100KL-Yageo-datasheet-73766026.pdf; ComponentLink16Description: https://datasheet.octopart.com/RC0402JR-07100KL-Yageo-datasheet-73766026.pdf; ComponentLink17URL: https://datasheet.octopart.com:443/RC0402JR-07100KL-Yageo-datasheet-8329306.pdf?src-supplier=element14; ComponentLink17Description: https://datasheet.octopart.com:443/RC0402JR-07100KL-Yageo-datasheet-8329306.pdf?src-supplier=element14; ComponentLink18URL: http://sigma.octopart.com:80/conflict_mineral_statement/Yageo-company-3.pdf?src-supplier=Compliance+Statements; ComponentLink18Description: http://sigma.octopart.com:80/conflict_mineral_statement/Yageo-company-3.pdf?src-supplier=Compliance+Statements; ComponentLink19URL: http://sigma.octopart.com:80/rohs_statement/Yageo-company-2.pdf?src-supplier=Compliance+Statements; ComponentLink19Description: http://sigma.octopart.com:80/rohs_statement/Yageo-company-2.pdf?src-supplier=Compliance+Statements; LCSC PART: C106234
footprint RESISTOR
pins: 1, 2